# Altium footprint library SOD-323.PcbLib: 1 footprints
Each footprint in its own frame and in the unit in brackets; x right, y up, seen from the top. Pads: shape width x height; smd on the part's side, far side on the other; paste and mask are expansions set on the pad; w line width, h text height; cw(c..) or ccw(c..) is an arc to the next point about the centre after c.
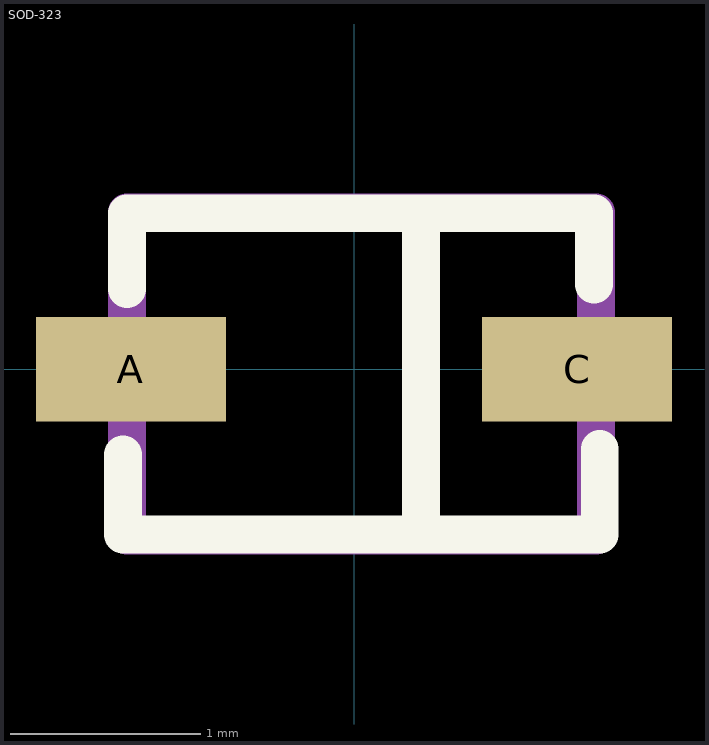
[diagram p0: the footprint, top view; thin cyan lines are the x and y axes]

## SOD-323 [mm]
pads (2):
  rect 1x0.55 smd: A(-1.175,0) C(1.175,0)
Top Overlay:
  lines w0.2: -1.216,-0.448 -1.216,-0.869 1.294,-0.869 1.294,-0.419 ; -1.194,0.423 -1.194,0.821 1.264,0.821 1.264,0.445 ; 0.353,0.821 0.353,-0.869 0.376,-0.869
Mechanical 13:
  lines w0.2: -1.195,0.45 -1.195,0.825 1.275,0.825 1.275,-0.875 1.15,-0.875 -1.195,-0.875 -1.195,0.814
3D body "User Library-SOD323F-1.STEP": height 1, standoff 0, extent -1.225,-0.664 1.275,0.686